# Altium schematic symbol library PassiveComponents.SchLib: 8 symbols
Pins are listed as number, name and electrical type; pins without a type are passive.

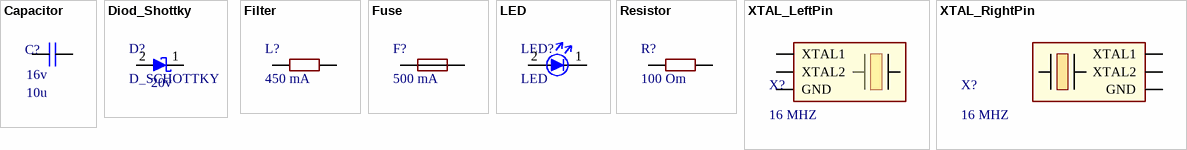
[diagram p0: symbols Capacitor to XTAL_RightPin]

## Capacitor
designator C?  Сapacity: 10u  Voltage: 16v  (hidden comment: *)
footprint CAP_0603 (Chip Capacitor, 2-Leads, Body 1,60x0,80mm, IPC Medium Density)
pins: 1, 2

## Diod_Shottky
designator D?, comment D_SCHOTTKY  Voltage: 20v
footprint Diod_Shottky (SODFL, 2-Leads, Body 1,25x2,50mm, IPC Medium Density)
pins: 1, 2

## Filter
designator L?, comment 450 mA
footprint RES_0603 (Chip Resistor, 2-Leads, Body 1,60x0,80mm, IPC Medium Density)
pins: 1, 2

## Fuse
designator F?, comment 500 mA
pins: 1, 2

## LED
designator LED?
footprint Led_0603_Green
footprint Led_0603_Red
pins: 1, 2

## Resistor
designator R?, comment 100 Om
footprint RES_0603 (Chip Resistor, 2-Leads, Body 1,60x0,80mm, IPC Medium Density)
footprint Res_0805 (Chip Resistor, 2-Leads, Body 2,00x1,25mm, IPC Medium Density)
pins: 1, 2

## XTAL_LeftPin
designator X?, comment 16 MHZ
pins: 1 XTAL1, 2 XTAL2, 3 GND

## XTAL_RightPin
designator X?, comment 16 MHZ
pins: 1 XTAL1, 2 XTAL2, 3 GND